# Altium footprint library ATK-2014-09-12.PcbLib: 439 footprints (part 27 of 28)
Each footprint in its own frame and in the unit in brackets; x right, y up, seen from the top. Pads: shape width x height; smd on the part's side, far side on the other; paste and mask are expansions set on the pad; w line width, h text height; cw(c..) or ccw(c..) is an arc to the next point about the centre after c.
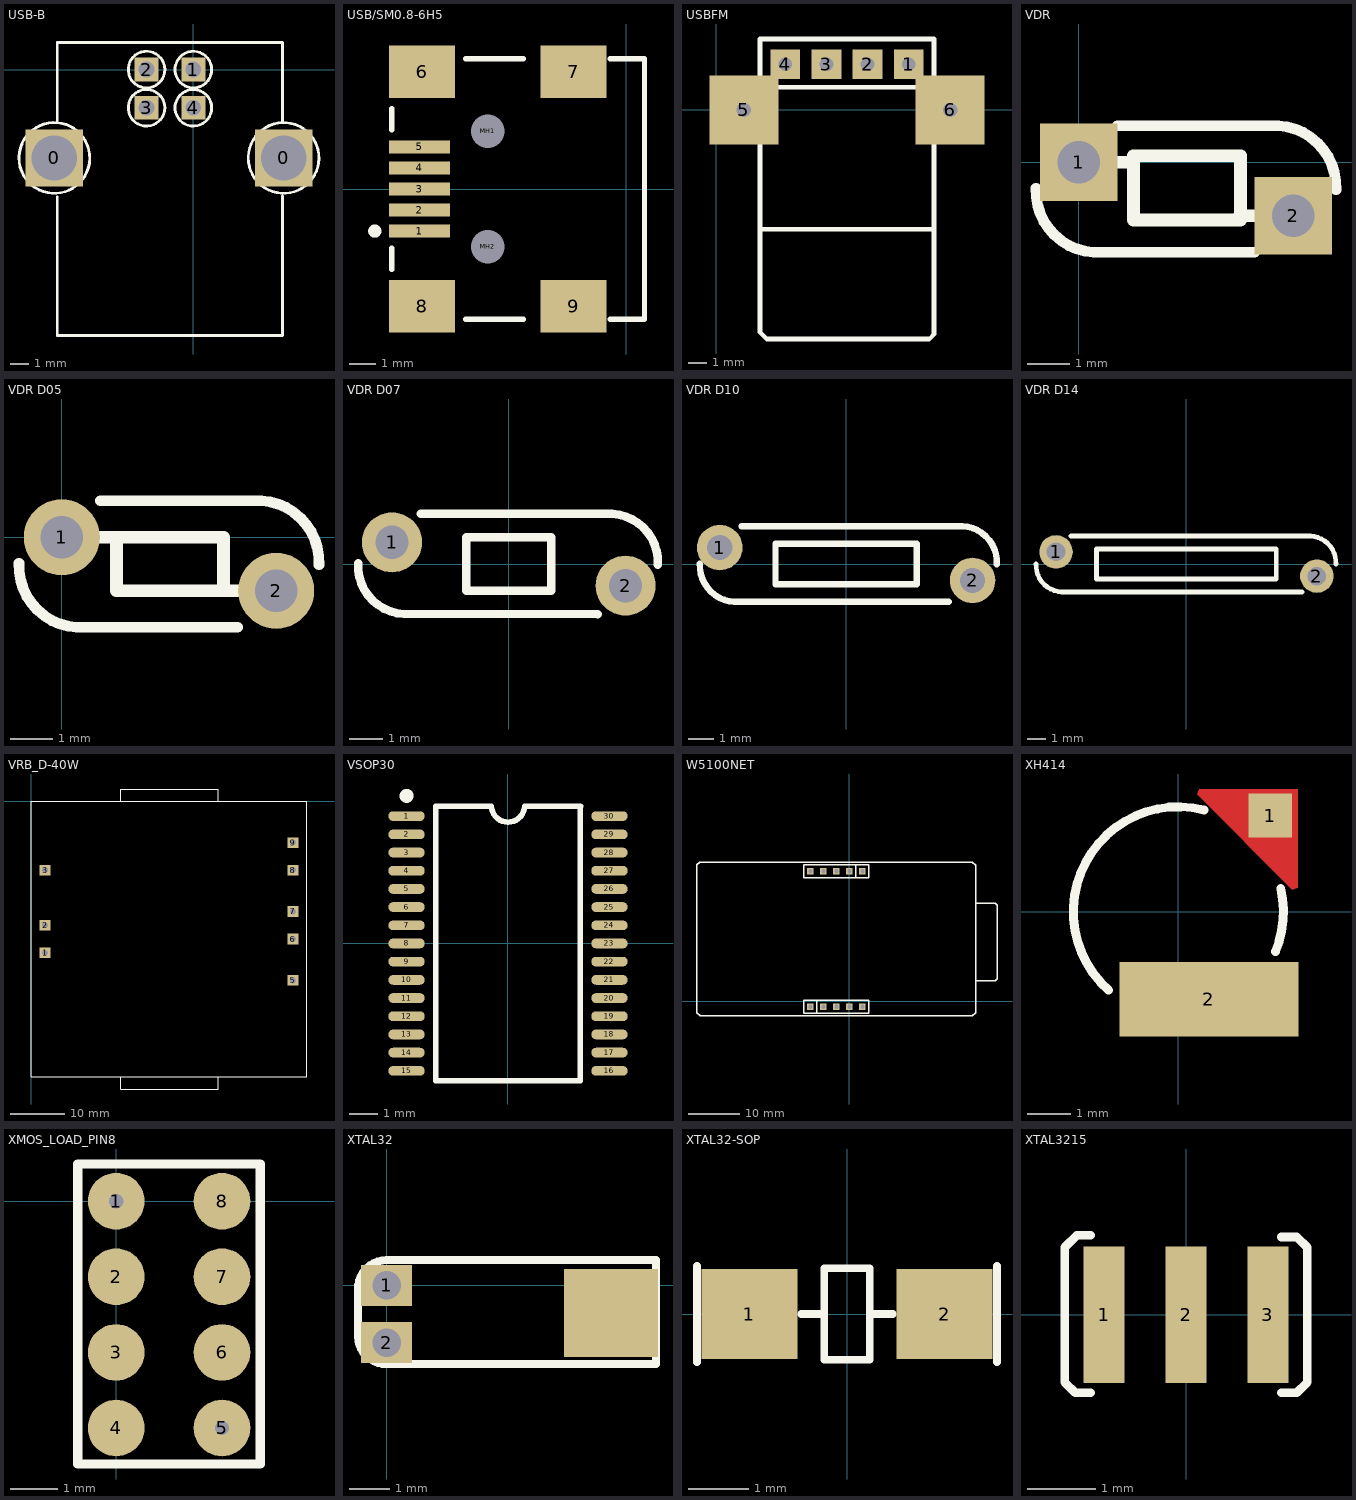
[diagram p26: the footprints below, top view; thin cyan lines are the x and y axes]

## USB-B [mil]
pads (6):
  rect 120x120 hole 95: 0(-291,-185) 0(189,-185)
  rect 50x50 hole 33: 1(0,0) 2(-98,0) 3(-98,-80) 4(0,-80)
Top Overlay:
  circle w6: c0,-80 r38.3
  circle w6: c0,0 r38.3
  circle w6: c-98,-80 r38.3
  circle w6: c-98,0 r38.3
  lines w6: -365.04,-185 ccw(c-291,-185) -365,-182.5 ; -285,-266.5 -285,-557 187,-557 187,-264.5 ; -285,-108.5 -285,57 187,57 187,-110.5 ; 114.96,-185 ccw(c189,-185) 115,-182.5

## USB/SM0.8-6H5 [mm]
height 1
pads (11):
  rect 2.3x0.5 smd: 1(-7.85,-1.6) 2(-7.85,-0.8) 3(-7.85,0) 4(-7.85,0.8) 5(-7.85,1.6)
  rect 2.5x2 smd: 6(-7.75,4.45) 7(-1.996,4.45) 8(-7.75,-4.45) 9(-1.996,-4.45)
  rect 0.6x0.6 hole 1.27 unplated: MH1(-5.25,2.2) MH2(-5.25,-2.2)
Top Overlay:
  circle w0.25: c-9.55,-1.6 r0.125
  lines w0.2: -8.9,-3.05 -8.9,-2.25 ; -8.9,2.25 -8.9,3.05 ; -6.1,-4.95 -3.9,-4.95 ; -6.1,4.95 -3.9,4.95 ; -0.6,-4.95 0.7,-4.95 0.7,4.95 -0.6,4.95

## USBFM [mil] "USBFM"
height 196.85
pads (6):
  rect 65x65 hole 30: 1(420,100) 2(330,100) 3(240,100) 4(150,100)
  rect 150x150 hole 31.5: 5(60,0) 6(510,0)
Top Overlay:
  lines w10: 95,-260 475,-260 ; 95,50 475,50 ; 95,-485 110,-500 465,-500 475,-490 475,-195 475,155 95,155 95,-195 95,-485

## VDR [mil] "PIN:5.08;SIZE:7*3;"
height 118.11
pads (2):
  rect 72x72 hole 40: 1(0,0) 2(200,-50)
Top Overlay:
  lines w10: -39.86,-24.34 ccw(c17.09,-27.07) 14,-84 164,-84 ; 36,34 186,34 cw(c182.91,-22.93) 239.86,-25.66
  lines w12: 0,0 50,0 ; 150,-50 200,-50 ; 51,-54 51,6 151,6 151,-24 151,-54 51,-54

## VDR D05 [mm] "压敏电阻 扁圆形 脚距5mm"
pads (2):
  round 1.8 hole 1: 1(0,0) 2(5.08,-1.27)
Top Overlay:
  lines w0.254: -1.012,-0.618 ccw(c0.434,-0.688) 0.356,-2.134 4.166,-2.134 ; 0.914,0.864 4.724,0.864 cw(c4.646,-0.582) 6.092,-0.652
  lines w0.305: 0,0 1.27,0 ; 3.81,-1.27 5.08,-1.27 ; 1.295,-1.27 1.295,0 3.835,0 3.835,-0.61 3.835,-1.27 1.295,-1.27

## VDR D07 [mm] "压敏电阻 扁圆形 脚距7mm"
pads (2):
  round 1.8 hole 1: 1(-3.5,0.65) 2(3.5,-0.65)
Top Overlay:
  lines w0.254: -4.518,0.017 ccw(c-3.071,-0.053) -3.15,-1.499 2.667,-1.5 ; -2.642,1.5 3.102,1.5 cw(c3.024,0.054) 4.47,-0.015 ; -1.27,-0.8 1.27,-0.8 1.27,0.8 -1.27,0.8 -1.27,-0.8

## VDR D10 [mm] "压敏电阻 扁圆形 脚距10mm"
pads (2):
  round 1.8 hole 1: 1(-5,0.65) 2(5,-0.65)
Top Overlay:
  lines w0.254: -5.788,0.017 ccw(c-4.341,-0.053) -4.42,-1.499 4.064,-1.499 ; -4.14,1.5 4.597,1.499 cw(c4.519,0.053) 5.965,-0.017 ; -2.794,-0.8 2.794,-0.8 2.794,0.8 -2.794,0.8 -2.794,-0.8

## VDR D14 [mm] "压敏电阻 扁圆形 脚距14mm"
pads (2):
  round 1.8 hole 1: 1(-7,0.65) 2(7,-0.65)
Top Overlay:
  lines w0.254: -8.074,0.017 ccw(c-6.627,-0.053) -6.706,-1.499 6.223,-1.501 ; -6.198,1.5 6.658,1.5 cw(c6.58,0.054) 8.026,-0.015 ; -4.826,-0.8 4.826,-0.8 4.826,0.8 -4.826,0.8 -4.826,-0.8

## VRB_D-40W [mm] "2'*2'*O.42'"
height 23
pads (8):
  rect 2x2 hole 1.1: 1(2.54,-27.94) 2(2.54,-22.86) 3(2.54,-12.7) 5(48.26,-33.02) 6(48.26,-25.4) 7(48.26,-20.32) 8(48.26,-12.7) 9(48.26,-7.62)
Top Overlay:
  lines w0.178: 16.51,-50.8 16.51,-53.086 34.51,-53.086 34.51,-50.834 ; 16.51,0 16.51,2.286 34.51,2.286 34.51,0.034 ; 0,-50.8 50.8,-50.8 50.8,0 0,0 0,-50.8

## VSOP30 [mm]
height 1.5
pads (30):
  oval 1.3x0.35 smd: 1(-3.625,4.55) 2(-3.625,3.9) 3(-3.625,3.25) 4(-3.625,2.6) 5(-3.625,1.95) 6(-3.625,1.3) 7(-3.625,0.65) 8(-3.625,0) 9(-3.625,-0.65) 10(-3.625,-1.3) 11(-3.625,-1.95) 12(-3.625,-2.6) 13(-3.625,-3.25) 14(-3.625,-3.9) 15(-3.625,-4.55) 16(3.625,-4.55) 17(3.625,-3.9) 18(3.625,-3.25) 19(3.625,-2.6) 20(3.625,-1.95) 21(3.625,-1.3) 22(3.625,-0.65) 23(3.625,0) 24(3.625,0.65) 25(3.625,1.3) 26(3.625,1.95) 27(3.625,2.6) 28(3.625,3.25) 29(3.625,3.9) 30(3.625,4.55)
Top Overlay:
  circle w0.25: c-3.625,5.275 r0.125
  lines w0.2: -2.575,4.9 -2.575,-4.9 2.575,-4.9 2.575,4.9 ; -2.565,4.902 -0.61,4.902 ; -0.592,4.902 ccw(c0,4.928) 0.592,4.903 ; 0.61,4.902 2.591,4.902

## W5100NET [mil] "NET_FOOT"
pads (10):
  rect 50x50 hole 32: 1(101,1000) 2(1,1000) 3(-99,1000) 4(-199,1000) 5(-299,1000) 6(-299,-40) 7(-199,-40) 8(-99,-40) 9(1,-40) 10(101,-40)
Top Overlay:
  lines w10: -1020,1070 945,1070 970,1045 970,-85 945,-110 -1145,-110 -1170,-85 -1170,1050 -1150,1070 -530,1070 ; -249,-90 -249,10 ; 51,950 51,1050 ; 970,160 1120,160 1135,175 1135,740 1120,755 975,755 970,750 ; -349,-90 151,-90 151,10 -349,10 -349,-90 ; -349,950 -349,1050 151,1050 151,950 -349,950

## XH414 [mm] "BATTERY"
height 1.4
pads (2):
  rect 1x1 smd: 1(2.1,2.2)
  rect 4.1x1.7 smd: 2(0.7,-2)
Top Layer:
  region: 2.724,0.553 2.606,0.504 0.428,2.683 0.476,2.8 2.724,2.8
Top Overlay:
  lines w0.203: -1.594,-1.794 cw(c0,0) 0.582,2.328 ; 2.221,-0.909 ccw(c0,0) 2.34,0.532
Top Solder:
  region: 2.706,0.559 2.589,0.511 0.411,2.689 0.459,2.806 2.706,2.806

## XMOS_LOAD_PIN8 [mm]
pads (8):
  round 1.2 hole 0.3: 1(0,0) 5(2.24,-4.8)
  round 1.2 smd: 2(0,-1.6) 3(0,-3.2) 4(0,-4.8) 6(2.24,-3.2) 7(2.24,-1.6) 8(2.24,0)
Top Overlay:
  lines w0.2: -0.813,-5.563 3.048,-5.563 3.048,0.787 -0.813,0.787 -0.813,-5.563

## XTAL32 [mil]
pads (3):
  rect 50x40 hole 28: 1(0,0) 2(0,-56)
  rect 92.13x86 smd: ""(220,-27)
Top Overlay:
  lines w8: -28,-50 ccw(c-0.5,-49.5) 0,-77 264,-77 264,25 0,25 ccw(c0.5,-3.5) -28,-4 -28,-50

## XTAL32-SOP [mm]
pads (2):
  rect 1.6x1.5 smd: 1(-1.626,0) 2(1.626,0)
Top Overlay:
  lines w0.127: -2.5,-0.8 -2.5,0.8 ; -0.762,0 -0.381,0 -0.381,0.762 0.381,0.762 0.381,-0.762 -0.381,-0.762 -0.381,0.127 ; 0.381,0 0.762,0 ; 2.5,-0.8 2.5,0.8

## XTAL3215 [mm]
pads (3):
  rect 0.6x2 smd: 1(-1.2,0) 2(0,0) 3(1.2,0)
Top Overlay:
  lines w0.127: -1.397,-1.143 -1.626,-1.143 -1.778,-0.991 -1.778,0.991 -1.6,1.168 -1.397,1.168 ; 1.397,-1.143 1.626,-1.143 1.778,-0.991 1.778,0.991 1.626,1.143 1.397,1.143